# Altium footprint library AXIAL_DIO_0.3.PcbLib: 1 footprints
Each footprint in its own frame and in the unit in brackets; x right, y up, seen from the top. Pads: shape width x height; smd on the part's side, far side on the other; paste and mask are expansions set on the pad; w line width, h text height; cw(c..) or ccw(c..) is an arc to the next point about the centre after c.
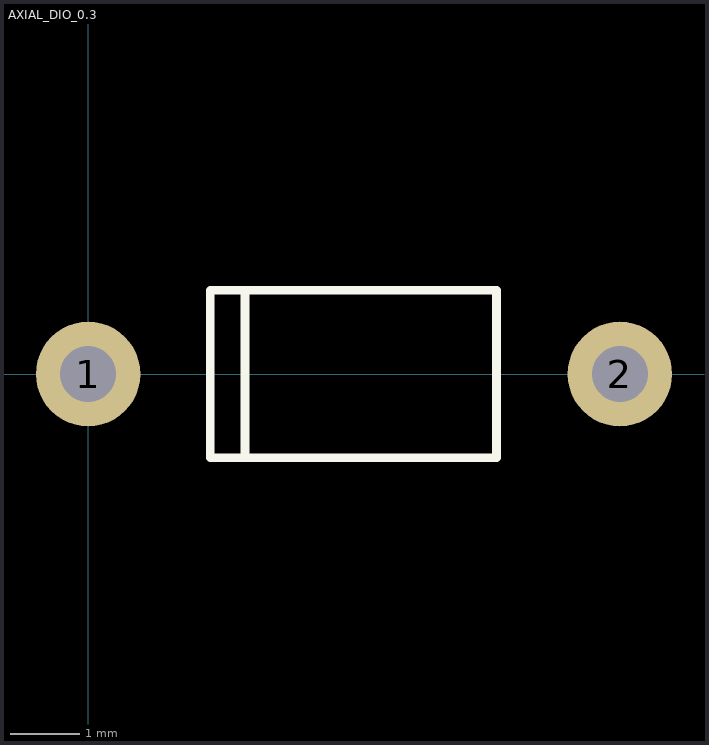
[diagram p0: the footprint, top view; thin cyan lines are the x and y axes]

## AXIAL_DIO_0.3 [mm] "Axial Diode 0.3\" lead spacing"
pads (2):
  round 1.5 hole 0.8: 1(0,0) 2(7.62,0)
Top Overlay:
  lines w0.127: 2.25,-1.2 2.25,1.2 ; 1.75,-1.2 1.75,1.2 5.85,1.2 5.85,-1.2 1.75,-1.2
3D body "AXIAL_DIO_0.3.SLDPRT": height 2.55, standoff -2.7, extent -0.26,-1.24 7.86,1.25